# Altium footprint library PCB-Lib.PcbLib: 9 footprints
Each footprint in its own frame and in the unit in brackets; x right, y up, seen from the top. Pads: shape width x height; smd on the part's side, far side on the other; paste and mask are expansions set on the pad; w line width, h text height; cw(c..) or ccw(c..) is an arc to the next point about the centre after c.
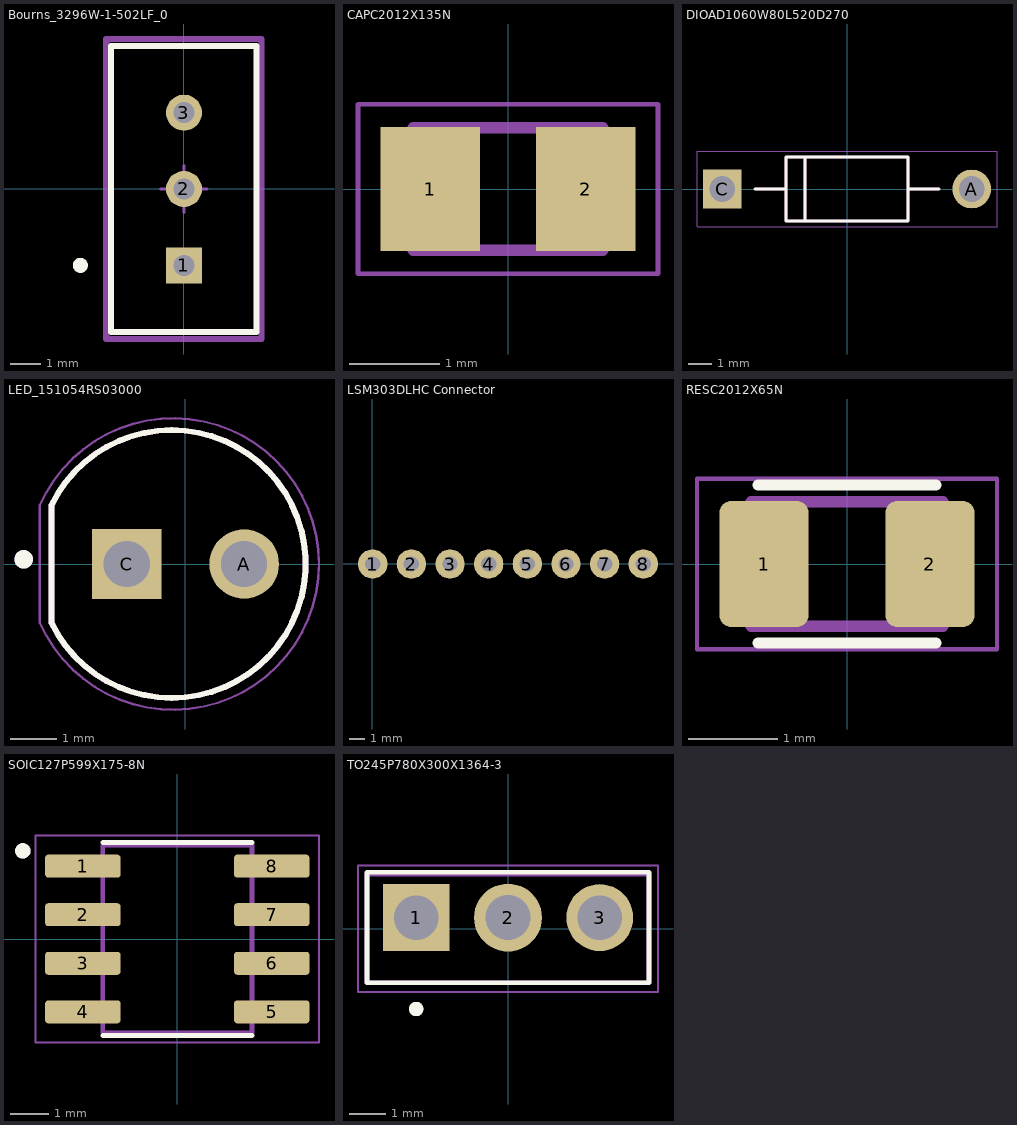
[diagram p0: the footprints below, top view; thin cyan lines are the x and y axes]

## Bourns_3296W-1-502LF_0 [mm]
pads (3):
  rect 1.2x1.2 hole 0.7 paste-1000 mask+0: 1(0.005,-2.54)
  round 1.2 hole 0.7 paste-1000 mask+0: 2(0.005,0) 3(0.005,2.54)
Top Overlay:
  circle w0.25: c-3.44,-2.54 r0.125
  lines w0.2: -2.415,-4.765 2.415,-4.765 2.415,4.765 -2.415,4.765 -2.415,-4.765
Mechanical 10:
  lines w0.2: -2.58,-4.99 2.58,-4.99 2.58,4.99 -2.58,4.99 -2.58,-4.99
  text ".Designator" at 0,0 h1
Mechanical 12:
  lines w0.15: -2.415,-4.765 2.415,-4.765 2.415,4.765 -2.415,4.765 -2.415,-4.765
Mechanical 15:
  lines w0.1: -0.774,0 0.774,0 ; 0,-0.774 0,0.774
  lines w0.2: -2.58,-4.99 2.58,-4.99 2.58,4.99 -2.58,4.99 -2.58,-4.99
3D body "3dmodel.step": height 0.25, standoff 0, extent -2.58,-4.99 2.58,4.99

## CAPC2012X135N [mm]
pads (2):
  rect 1.1x1.38 smd: 1(-0.863,0) 2(0.863,0)
Mechanical 13:
  lines w0.127: -1.05,-0.68 -1.05,0.68 1.05,0.68 1.05,-0.68 -1.05,-0.68
Mechanical 15:
  lines w0.05: -1.665,-0.94 -1.665,0.94 1.665,0.94 1.665,-0.94 -1.665,-0.94

## Deans Plug Connector [mil]

## DIOAD1060W80L520D270 [mm]
pads (2):
  round 1.65 hole 1.1: A(5.3,0)
  rect 1.65x1.65 hole 1.1: C(-5.3,0)
Top Overlay:
  lines w0.127: -3.9,0 -2.6,0 ; 3.9,0 2.6,0 ; -2.6,0 -2.6,-1.35 -1.775,-1.35 ; -2.6,0 -2.6,1.35 -1.775,1.35 ; -1.775,-1.35 -1.775,1.35 ; -1.775,-1.35 2.6,-1.35 2.6,0 ; -1.775,1.35 2.6,1.35 2.6,0
Mechanical 13:
  lines w0.127: -3.9,0 -2.6,0 ; 3.9,0 2.6,0 ; -2.6,0 -2.6,-1.35 -1.775,-1.35 ; -2.6,0 -2.6,1.35 -1.775,1.35 ; -1.775,-1.35 -1.775,1.35 ; -1.775,-1.35 2.6,-1.35 2.6,0 ; -1.775,1.35 2.6,1.35 2.6,0
Mechanical 15:
  lines w0.05: -6.375,-1.6 -6.375,1.6 6.375,1.6 6.375,-1.6 -6.375,-1.6

## LED_151054RS03000 [mm]
pads (2):
  round 1.508 hole 1: A(1.27,0)
  rect 1.508x1.508 hole 1: C(-1.27,0)
Top Overlay:
  circle w0.2: c-3.5,0.1 r0.1
  lines w0.127: -2.9,-1.27 ccw(c-0.296,0) -2.9,1.27 -2.9,-1.27
Mechanical 13:
  circle w0.2: c-3.5,0.1 r0.1
  lines w0.127: -2.9,-1.27 ccw(c-0.296,0) -2.9,1.27 -2.9,-1.27
Mechanical 15:
  lines w0.05: -3.15,-1.27 -3.15,1.27 ; -3.144,-1.283 ccw(c-0.264,0) -3.144,1.283

## LSM303DLHC Connector [mil]
pads (8):
  round 76 hole 39.37: 1(0.8,-0.18) 2(100.8,-0.18) 3(200.8,-0.18) 4(300.8,-0.18) 5(400.8,-0.18) 6(500.8,-0.18) 7(600.8,-0.18) 8(700.8,-0.18)
Mechanical 3:
  region: 690.8,-10.18 690.8,9.82 710.8,9.82 710.8,-10.18
  region: -9.2,-10.18 -9.2,9.82 10.8,9.82 10.8,-10.18
  region: 90.8,-10.18 90.8,9.82 110.8,9.82 110.8,-10.18
  region: 190.8,-10.18 190.8,9.82 210.8,9.82 210.8,-10.18
  region: 290.8,-10.18 290.8,9.82 310.8,9.82 310.8,-10.18
  region: 390.8,-10.18 390.8,9.82 410.8,9.82 410.8,-10.18
  region: 490.8,-10.18 490.8,9.82 510.8,9.82 510.8,-10.18
  region: 590.8,-10.18 590.8,9.82 610.8,9.82 610.8,-10.18

## RESC2012X65N [mm]
pads (2):
  rrect25% 1x1.42 smd: 1(-0.935,0) 2(0.935,0)
Top Overlay:
  lines w0.127: -1,-0.89 1,-0.89 ; -1,0.89 1,0.89
Mechanical 13:
  lines w0.127: -1.08,-0.7 -1.08,0.7 1.08,0.7 1.08,-0.7 -1.08,-0.7
Mechanical 15:
  lines w0.05: -1.69,-0.96 -1.69,0.96 1.69,0.96 1.69,-0.96 -1.69,-0.96

## SOIC127P599X175-8N [mm]
pads (8):
  rrect25% 1.97x0.6 smd: 1(-2.47,1.905) 2(-2.47,0.635) 3(-2.47,-0.635) 4(-2.47,-1.905) 5(2.47,-1.905) 6(2.47,-0.635) 7(2.47,0.635) 8(2.47,1.905)
Top Overlay:
  circle w0.2: c-4.04,2.305 r0.1
  lines w0.127: -1.95,-2.525 1.95,-2.525 ; -1.95,2.525 1.95,2.525
Mechanical 13:
  circle w0.2: c-4.04,2.305 r0.1
  lines w0.127: -1.95,-2.452 -1.95,2.452 1.95,2.452 1.95,-2.452 -1.95,-2.452
Mechanical 15:
  lines w0.05: -3.705,-2.702 -3.705,2.702 3.705,2.702 3.705,-2.702 -3.705,-2.702

## TO245P780X300X1364-3 [mm]
pads (3):
  rect 1.85x1.85 hole 1.23: 1(-2.54,0.305)
  round 1.88 hole 1.25: 2(0,0.305)
  round 1.85 hole 1.23: 3(2.54,0.305)
Top Overlay:
  circle w0.2: c-2.54,-2.222 r0.1
  lines w0.127: -3.9,-1.5 -3.9,1.559 3.9,1.559 3.9,-1.5 -3.9,-1.5
Mechanical 13:
  circle w0.2: c-2.54,-2.222 r0.1
  lines w0.127: -3.9,-1.5 -3.9,1.5 3.9,1.5 3.9,-1.5 -3.9,-1.5
Mechanical 15:
  lines w0.05: -4.15,-1.75 -4.15,1.75 4.15,1.75 4.15,-1.75 -4.15,-1.75